# Altium schematic symbol library SCH - MCU - ATMEGA - MICROCHIP AVR128DA64 QFN64.SchLib: 1 symbol
Pins are listed as number, name and electrical type; pins without a type are passive.

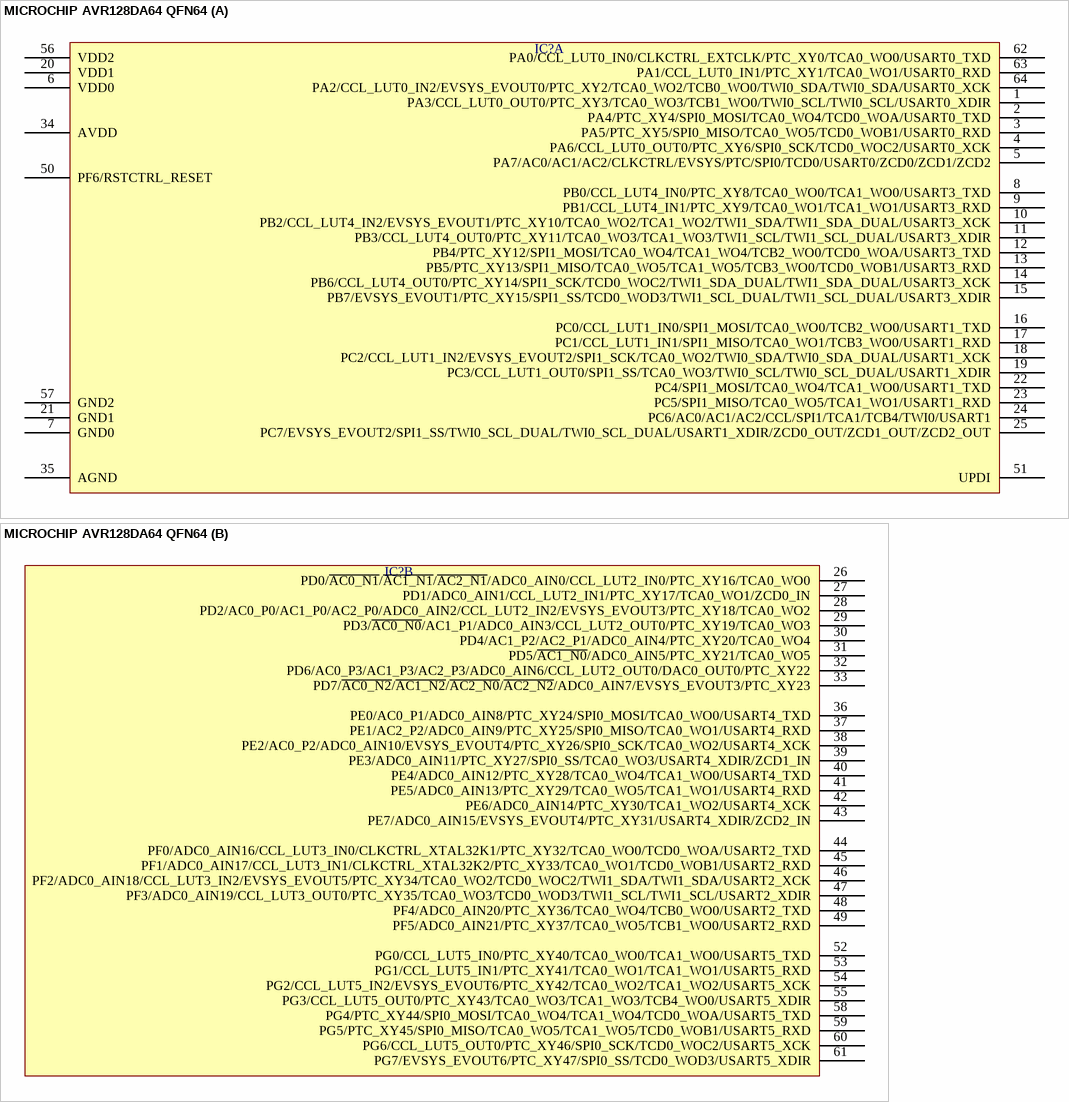
[diagram p0: symbol MICROCHIP AVR128DA64 QFN64]

## MICROCHIP AVR128DA64 QFN64
designator IC?  (value not drawn)
part A pins: 1 PA3/CCL_LUT0_OUT0/PTC_XY3/TCA0_WO3/TCB1_WO0/TWI0_SCL/TWI0_SCL/USART0_XDIR, 2 PA4/PTC_XY4/SPI0_MOSI/TCA0_WO4/TCD0_WOA/USART0_TXD, 3 PA5/PTC_XY5/SPI0_MISO/TCA0_WO5/TCD0_WOB1/USART0_RXD, 4 PA6/CCL_LUT0_OUT0/PTC_XY6/SPI0_SCK/TCD0_WOC2/USART0_XCK, 5 PA7/AC0/AC1/AC2/CLKCTRL/EVSYS/PTC/SPI0/TCD0/USART0/ZCD0/ZCD1/ZCD2, 6 VDD0, 7 GND0, 8 PB0/CCL_LUT4_IN0/PTC_XY8/TCA0_WO0/TCA1_WO0/USART3_TXD, 9 PB1/CCL_LUT4_IN1/PTC_XY9/TCA0_WO1/TCA1_WO1/USART3_RXD, 10 PB2/CCL_LUT4_IN2/EVSYS_EVOUT1/PTC_XY10/TCA0_WO2/TCA1_WO2/TWI1_SDA/TWI1_SDA_DUAL/USART3_XCK, 11 PB3/CCL_LUT4_OUT0/PTC_XY11/TCA0_WO3/TCA1_WO3/TWI1_SCL/TWI1_SCL_DUAL/USART3_XDIR, 12 PB4/PTC_XY12/SPI1_MOSI/TCA0_WO4/TCA1_WO4/TCB2_WO0/TCD0_WOA/USART3_TXD, 13 PB5/PTC_XY13/SPI1_MISO/TCA0_WO5/TCA1_WO5/TCB3_WO0/TCD0_WOB1/USART3_RXD, 14 PB6/CCL_LUT4_OUT0/PTC_XY14/SPI1_SCK/TCD0_WOC2/TWI1_SDA_DUAL/TWI1_SDA_DUAL/USART3_XCK, 15 PB7/EVSYS_EVOUT1/PTC_XY15/SPI1_SS/TCD0_WOD3/TWI1_SCL_DUAL/TWI1_SCL_DUAL/USART3_XDIR, 16 PC0/CCL_LUT1_IN0/SPI1_MOSI/TCA0_WO0/TCB2_WO0/USART1_TXD, 17 PC1/CCL_LUT1_IN1/SPI1_MISO/TCA0_WO1/TCB3_WO0/USART1_RXD, 18 PC2/CCL_LUT1_IN2/EVSYS_EVOUT2/SPI1_SCK/TCA0_WO2/TWI0_SDA/TWI0_SDA_DUAL/USART1_XCK, 19 PC3/CCL_LUT1_OUT0/SPI1_SS/TCA0_WO3/TWI0_SCL/TWI0_SCL_DUAL/USART1_XDIR, 20 VDD1, 21 GND1, 22 PC4/SPI1_MOSI/TCA0_WO4/TCA1_WO0/USART1_TXD, 23 PC5/SPI1_MISO/TCA0_WO5/TCA1_WO1/USART1_RXD, 24 PC6/AC0/AC1/AC2/CCL/SPI1/TCA1/TCB4/TWI0/USART1, 25 PC7/EVSYS_EVOUT2/SPI1_SS/TWI0_SCL_DUAL/TWI0_SCL_DUAL/USART1_XDIR/ZCD0_OUT/ZCD1_OUT/ZCD2_OUT, 34 AVDD, 35 AGND, 50 PF6/RSTCTRL_RESET, 51 UPDI, 56 VDD2, 57 GND2, 62 PA0/CCL_LUT0_IN0/CLKCTRL_EXTCLK/PTC_XY0/TCA0_WO0/USART0_TXD, 63 PA1/CCL_LUT0_IN1/PTC_XY1/TCA0_WO1/USART0_RXD, 64 PA2/CCL_LUT0_IN2/EVSYS_EVOUT0/PTC_XY2/TCA0_WO2/TCB0_WO0/TWI0_SDA/TWI0_SDA/USART0_XCK
part B pins: 26 PD0/~{AC0_N1}/~{AC1_N1}/~{AC2_N1}/ADC0_AIN0/CCL_LUT2_IN0/PTC_XY16/TCA0_WO0, 27 PD1/ADC0_AIN1/CCL_LUT2_IN1/PTC_XY17/TCA0_WO1/ZCD0_IN, 28 PD2/AC0_P0/AC1_P0/AC2_P0/ADC0_AIN2/CCL_LUT2_IN2/EVSYS_EVOUT3/PTC_XY18/TCA0_WO2, 29 PD3/~{AC0_N0}/AC1_P1/ADC0_AIN3/CCL_LUT2_OUT0/PTC_XY19/TCA0_WO3, 30 PD4/AC1_P2/AC2_P1/ADC0_AIN4/PTC_XY20/TCA0_WO4, 31 PD5/~{AC1_N0}/ADC0_AIN5/PTC_XY21/TCA0_WO5, 32 PD6/AC0_P3/AC1_P3/AC2_P3/ADC0_AIN6/CCL_LUT2_OUT0/DAC0_OUT0/PTC_XY22, 33 PD7/~{AC0_N2}/~{AC1_N2}/~{AC2_N0}/~{AC2_N2}/ADC0_AIN7/EVSYS_EVOUT3/PTC_XY23, 36 PE0/AC0_P1/ADC0_AIN8/PTC_XY24/SPI0_MOSI/TCA0_WO0/USART4_TXD, 37 PE1/AC2_P2/ADC0_AIN9/PTC_XY25/SPI0_MISO/TCA0_WO1/USART4_RXD, 38 PE2/AC0_P2/ADC0_AIN10/EVSYS_EVOUT4/PTC_XY26/SPI0_SCK/TCA0_WO2/USART4_XCK, 39 PE3/ADC0_AIN11/PTC_XY27/SPI0_SS/TCA0_WO3/USART4_XDIR/ZCD1_IN, 40 PE4/ADC0_AIN12/PTC_XY28/TCA0_WO4/TCA1_WO0/USART4_TXD, 41 PE5/ADC0_AIN13/PTC_XY29/TCA0_WO5/TCA1_WO1/USART4_RXD, 42 PE6/ADC0_AIN14/PTC_XY30/TCA1_WO2/USART4_XCK, 43 PE7/ADC0_AIN15/EVSYS_EVOUT4/PTC_XY31/USART4_XDIR/ZCD2_IN, 44 PF0/ADC0_AIN16/CCL_LUT3_IN0/CLKCTRL_XTAL32K1/PTC_XY32/TCA0_WO0/TCD0_WOA/USART2_TXD, 45 PF1/ADC0_AIN17/CCL_LUT3_IN1/CLKCTRL_XTAL32K2/PTC_XY33/TCA0_WO1/TCD0_WOB1/USART2_RXD, 46 PF2/ADC0_AIN18/CCL_LUT3_IN2/EVSYS_EVOUT5/PTC_XY34/TCA0_WO2/TCD0_WOC2/TWI1_SDA/TWI1_SDA/USART2_XCK, 47 PF3/ADC0_AIN19/CCL_LUT3_OUT0/PTC_XY35/TCA0_WO3/TCD0_WOD3/TWI1_SCL/TWI1_SCL/USART2_XDIR, 48 PF4/ADC0_AIN20/PTC_XY36/TCA0_WO4/TCB0_WO0/USART2_TXD, 49 PF5/ADC0_AIN21/PTC_XY37/TCA0_WO5/TCB1_WO0/USART2_RXD, 52 PG0/CCL_LUT5_IN0/PTC_XY40/TCA0_WO0/TCA1_WO0/USART5_TXD, 53 PG1/CCL_LUT5_IN1/PTC_XY41/TCA0_WO1/TCA1_WO1/USART5_RXD, 54 PG2/CCL_LUT5_IN2/EVSYS_EVOUT6/PTC_XY42/TCA0_WO2/TCA1_WO2/USART5_XCK, 55 PG3/CCL_LUT5_OUT0/PTC_XY43/TCA0_WO3/TCA1_WO3/TCB4_WO0/USART5_XDIR, 58 PG4/PTC_XY44/SPI0_MOSI/TCA0_WO4/TCA1_WO4/TCD0_WOA/USART5_TXD, 59 PG5/PTC_XY45/SPI0_MISO/TCA0_WO5/TCA1_WO5/TCD0_WOB1/USART5_RXD, 60 PG6/CCL_LUT5_OUT0/PTC_XY46/SPI0_SCK/TCD0_WOC2/USART5_XCK, 61 PG7/EVSYS_EVOUT6/PTC_XY47/SPI0_SS/TCD0_WOD3/USART5_XDIR